# Altium footprint library 2440PCBV5_20140403.PcbLib: 166 footprints (part 10 of 11)
Each footprint in its own frame and in the unit in brackets; x right, y up, seen from the top. Pads: shape width x height; smd on the part's side, far side on the other; paste and mask are expansions set on the pad; w line width, h text height; cw(c..) or ccw(c..) is an arc to the next point about the centre after c.
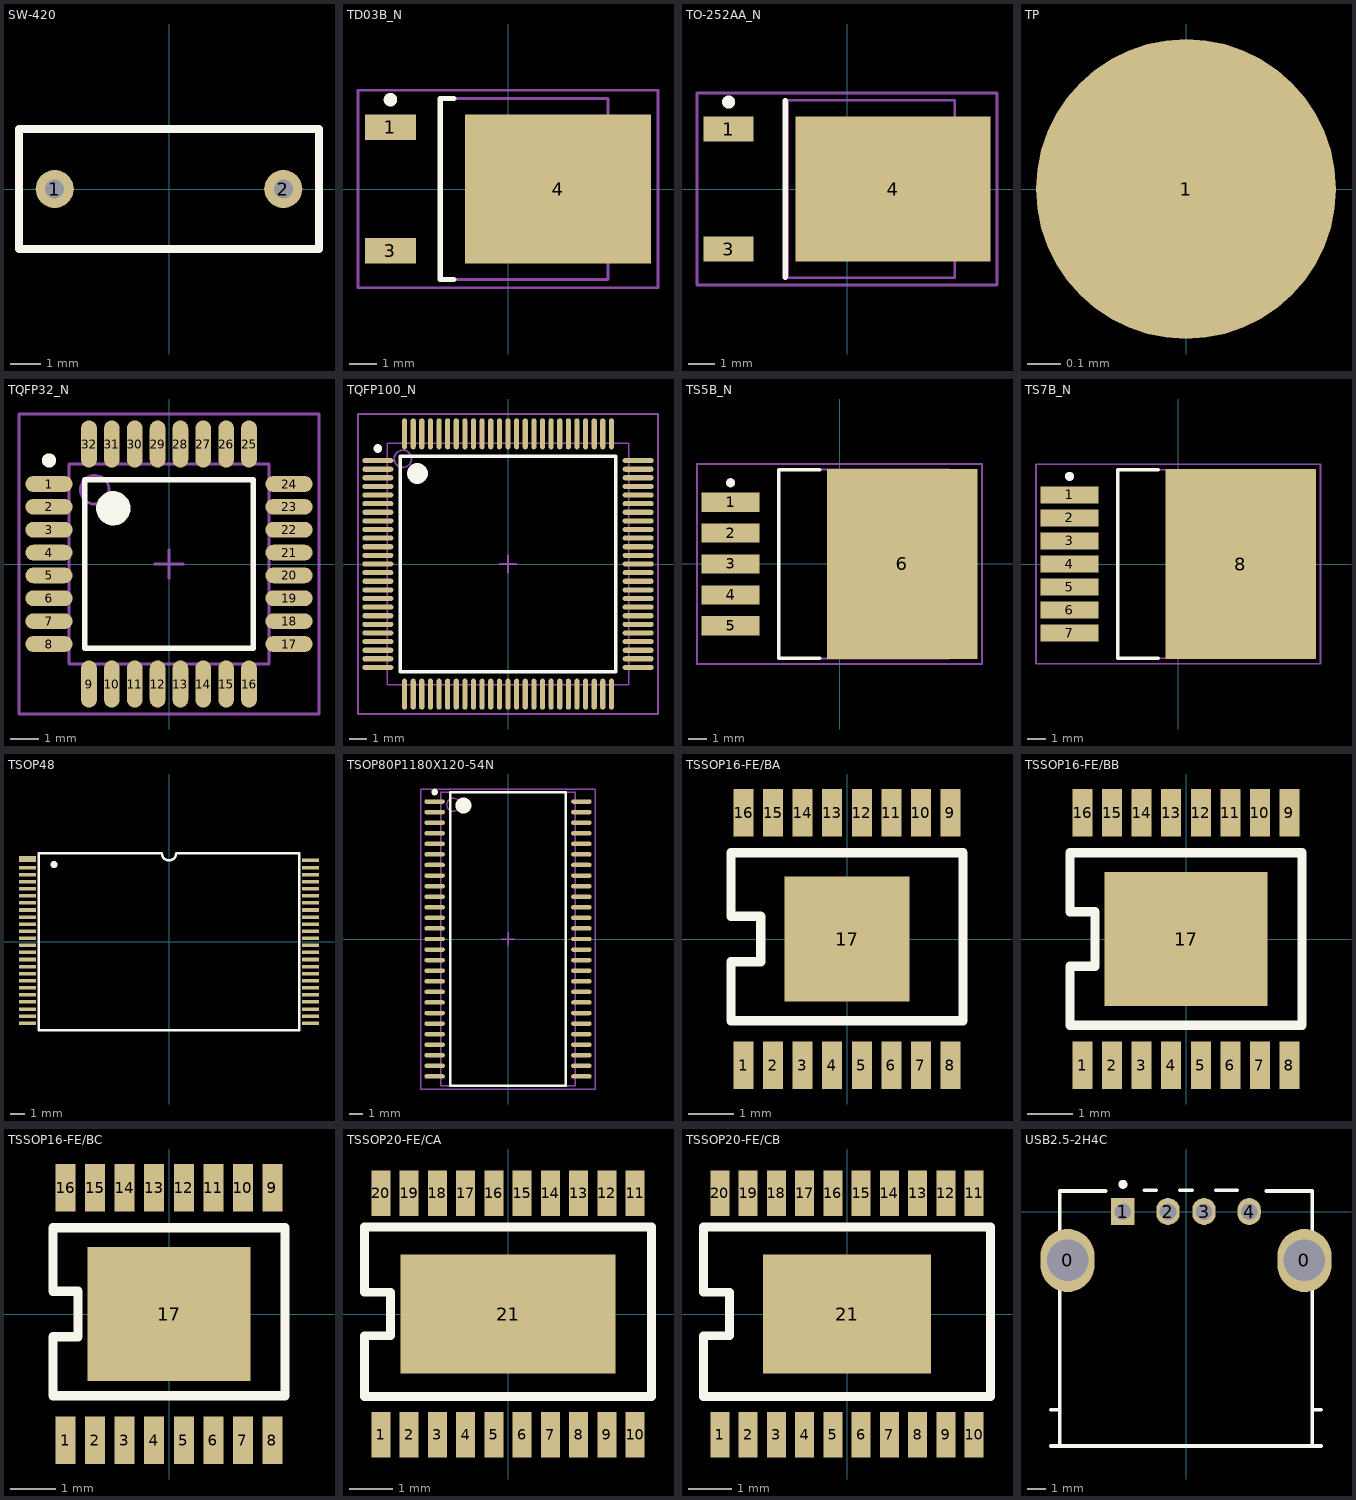
[diagram p9: the footprints below, top view; thin cyan lines are the x and y axes]

## SW-420 [mm]
pads (2):
  round 1.27 hole 0.635: 1(-3.81,0) 2(3.81,0)
Top Overlay:
  lines w0.254: -5,-2 5,-2 5,2 -5,2 -5,-2

## TD03B_N [mm]
height 2.38
pads (3):
  rect 1.9x0.95 smd: 1(-4.35,2.28) 3(-4.35,-2.28)
  rect 6.9x5.5 smd: 4(1.85,0)
Top Overlay:
  circle w0.25: c-4.35,3.305 r0.125
  lines w0.2: -2,-3.35 -2.5,-3.35 -2.5,3.35 -2,3.35
Mechanical 13:
  lines w0.1: -2.5,-3.35 -2.5,3.35 3.7,3.35 3.7,-3.35 -2.5,-3.35
Mechanical 15:
  lines w0.1: -0.5,0 0.5,0 ; 0,-0.5 0,0.5 ; -5.55,-3.65 -5.55,3.65 5.55,3.65 5.55,-3.65 -5.55,-3.65
3D body: height 2.38, standoff 0, extent -2.499,-3.349 3.699,3.349

## TO-252AA_N [mm] "D-PAK, 4-Leads, Body 6.1x6.5mm, Pitch 2.28mm, Lead Span 9.9mm, IPC Medium Density"
height 2.38
pads (3):
  rect 1.9x0.95 smd: 1(-4.5,2.28) 3(-4.5,-2.28)
  rect 7.4x5.5 smd: 4(1.75,0)
Top Overlay:
  circle w0.25: c-4.5,3.305 r0.125
  lines w0.2: -2.35,-3.35 -2.35,3.35
Mechanical 13:
  lines w0.1: -2.25,-3.375 -2.25,3.375 4.1,3.375 4.1,-3.375 -2.25,-3.375
Mechanical 15:
  lines w0.1: -0.5,0 0.5,0 ; 0,-0.5 0,0.5 ; -5.7,-3.65 -5.7,3.65 5.7,3.65 5.7,-3.65 -5.7,-3.65
3D body: height 2.38, standoff 0, extent -2.25,-3.375 4.1,3.375

## TP [mil] "Test Point 30mil-35mil"
pads (1):
  round 35 smd: 1(0,0)

## TQFP32_N [mm] "Thin QFP, 32-Leads, Body 7x7mm, Pitch 0.8mm, IPC Medium Density"
height 1.2
pads (32):
  oval 1.65x0.55 smd: 1(-4.2,2.8) 2(-4.2,2) 3(-4.2,1.2) 4(-4.2,0.4) 5(-4.2,-0.4) 6(-4.2,-1.2) 7(-4.2,-2) 8(-4.2,-2.8) 17(4.2,-2.8) 18(4.2,-2) 19(4.2,-1.2) 20(4.2,-0.4) 21(4.2,0.4) 22(4.2,1.2) 23(4.2,2) 24(4.2,2.8)
  oval 0.55x1.65 smd: 9(-2.8,-4.2) 10(-2,-4.2) 11(-1.2,-4.2) 12(-0.4,-4.2) 13(0.4,-4.2) 14(1.2,-4.2) 15(2,-4.2) 16(2.8,-4.2) 25(2.8,4.2) 26(2,4.2) 27(1.2,4.2) 28(0.4,4.2) 29(-0.4,4.2) 30(-1.2,4.2) 31(-2,4.2) 32(-2.8,4.2)
Top Overlay:
  circle w0.25: c-4.2,3.625 r0.125
  circle w0.6: c-1.95,1.95 r0.3
  lines w0.2: -2.95,-2.95 -2.95,2.95 2.95,2.95 2.95,-2.95 -2.95,-2.95
Mechanical 13:
  circle w0.1: c-2.6,2.6 r0.5
  lines w0.1: -3.5,-3.5 -3.5,3.5 3.5,3.5 3.5,-3.5 -3.5,-3.5
Mechanical 15:
  lines w0.1: -0.5,0 0.5,0 ; 0,-0.5 0,0.5 ; -5.25,-5.25 -5.25,5.25 5.25,5.25 5.25,-5.25 -5.25,-5.25
3D body: height 1.2, standoff 0, extent -3.5,-3.5 3.5,3.5

## TQFP100_N [mm] "100-Pin Plastic Thin Quad Flat Pack (TQFP100), IPC Medium Density"
height 1.2
pads (100):
  oval 1.8x0.3 smd: 1(-7.55,6) 2(-7.55,5.5) 3(-7.55,5) 4(-7.55,4.5) 5(-7.55,4) 6(-7.55,3.5) 7(-7.55,3) 8(-7.55,2.5) 9(-7.55,2) 10(-7.55,1.5) 11(-7.55,1) 12(-7.55,0.5) 13(-7.55,0) 14(-7.55,-0.5) 15(-7.55,-1) 16(-7.55,-1.5) 17(-7.55,-2) 18(-7.55,-2.5) 19(-7.55,-3) 20(-7.55,-3.5) 21(-7.55,-4) 22(-7.55,-4.5) 23(-7.55,-5) 24(-7.55,-5.5) 25(-7.55,-6) 51(7.55,-6) 52(7.55,-5.5) 53(7.55,-5) 54(7.55,-4.5) 55(7.55,-4) 56(7.55,-3.5) 57(7.55,-3) 58(7.55,-2.5) 59(7.55,-2) 60(7.55,-1.5) 61(7.55,-1) 62(7.55,-0.5) 63(7.55,0) 64(7.55,0.5) 65(7.55,1) 66(7.55,1.5) 67(7.55,2) 68(7.55,2.5) 69(7.55,3) 70(7.55,3.5) 71(7.55,4) 72(7.55,4.5) 73(7.55,5) 74(7.55,5.5) 75(7.55,6)
  oval 0.3x1.8 smd: 26(-6,-7.55) 27(-5.5,-7.55) 28(-5,-7.55) 29(-4.5,-7.55) 30(-4,-7.55) 31(-3.5,-7.55) 32(-3,-7.55) 33(-2.5,-7.55) 34(-2,-7.55) 35(-1.5,-7.55) 36(-1,-7.55) 37(-0.5,-7.55) 38(0,-7.55) 39(0.5,-7.55) 40(1,-7.55) 41(1.5,-7.55) 42(2,-7.55) 43(2.5,-7.55) 44(3,-7.55) 45(3.5,-7.55) 46(4,-7.55) 47(4.5,-7.55) 48(5,-7.55) 49(5.5,-7.55) 50(6,-7.55) 76(6,7.55) 77(5.5,7.55) 78(5,7.55) 79(4.5,7.55) 80(4,7.55) 81(3.5,7.55) 82(3,7.55) 83(2.5,7.55) 84(2,7.55) 85(1.5,7.55) 86(1,7.55) 87(0.5,7.55) 88(0,7.55) 89(-0.5,7.55) 90(-1,7.55) 91(-1.5,7.55) 92(-2,7.55) 93(-2.5,7.55) 94(-3,7.55) 95(-3.5,7.55) 96(-4,7.55) 97(-4.5,7.55) 98(-5,7.55) 99(-5.5,7.55) 100(-6,7.55)
Top Overlay:
  circle w0.6: c-5.25,5.25 r0.3
  circle w0.25: c-7.55,6.7 r0.125
  lines w0.2: -6.25,-6.25 6.25,-6.25 6.25,6.25 -6.25,6.25 -6.25,-6.25
Mechanical 13:
  circle w0.1: c-6.1,6.1 r0.5
  lines w0.1: -7,-7 7,-7 7,7 -7,7 -7,-7
Mechanical 15:
  lines w0.1: -0.5,0 0.5,0 ; 0,-0.5 0,0.5 ; -8.7,-8.7 8.7,-8.7 8.7,8.7 -8.7,8.7 -8.7,-8.7
3D body: height 1.2, standoff 0, extent -7,-7 7,7

## TS5B_N [mm]
height 4.65
pads (6):
  rect 3.2x1.05 smd: 1(-6,3.4) 2(-6,1.7) 3(-6,0) 4(-6,-1.7) 5(-6,-3.4)
  rect 8.3x10.45 smd: 6(3.45,0)
Top Overlay:
  circle w0.25: c-6,4.475 r0.125
  lines w0.2: -1.1,-5.2 -3.35,-5.2 -3.35,5.2 -1.1,5.2
Mechanical 13:
  lines w0.1: -3.35,-5.2 6.05,-5.2 6.05,5.2 -3.35,5.2 -3.35,-5.2
Mechanical 15:
  lines w0.1: -0.5,0 0.5,0 ; 0,-0.5 0,0.5 ; -7.85,-5.5 7.85,-5.5 7.85,5.5 -7.85,5.5 -7.85,-5.5
3D body: height 4.65, standoff 0, extent -3.35,-5.2 6.05,5.2

## TS7B_N [mm] "D2-PAK, 8-Leads, Body 8.6x10.2mm, Pitch 1.27mm, Lead Span 14.1mm, IPC Medium Density"
height 4.64
pads (8):
  rect 3.2x0.95 smd: 1(-6,3.81) 2(-6,2.54) 3(-6,1.27) 4(-6,0) 5(-6,-1.27) 6(-6,-2.54) 7(-6,-3.81)
  rect 8.3x10.5 smd: 8(3.45,0)
Top Overlay:
  circle w0.25: c-6,4.835 r0.125
  lines w0.2: -1.1,-5.2 -3.35,-5.2 -3.35,5.2 -1.1,5.2
Mechanical 13:
  lines w0.1: -3.35,-5.2 6.05,-5.2 6.05,5.2 -3.35,5.2 -3.35,-5.2
Mechanical 15:
  lines w0.1: -0.5,0 0.5,0 ; 0,-0.5 0,0.5 ; -7.85,-5.5 7.85,-5.5 7.85,5.5 -7.85,5.5 -7.85,-5.5
3D body: height 4.64, standoff 0, extent -3.35,-5.2 6.05,5.2

## TSOP48 [mm]
pads (48):
  rect 1.2x0.45 smd: 1(-10,5.85)
  rect 1.2x0.25 smd: 2(-10,5.25) 3(-10,4.75) 4(-10,4.25) 5(-10,3.75) 6(-10,3.25) 7(-10,2.75) 8(-10,2.25) 9(-10,1.75) 10(-10,1.25) 11(-10,0.75) 12(-10,0.25) 13(-10,-0.25) 14(-10,-0.75) 15(-10,-1.25) 16(-10,-1.75) 17(-10,-2.25) 18(-10,-2.75) 19(-10,-3.25) 20(-10,-3.75) 21(-10,-4.25) 22(-10,-4.75) 23(-10,-5.25) 24(-10,-5.75) 25(10,-5.75) 26(10,-5.25) 27(10,-4.75) 28(10,-4.25) 29(10,-3.75) 30(10,-3.25) 31(10,-2.75) 32(10,-2.25) 33(10,-1.75) 34(10,-1.25) 35(10,-0.75) 36(10,-0.25) 37(10,0.25) 38(10,0.75) 39(10,1.25) 40(10,1.75) 41(10,2.25) 42(10,2.75) 43(10,3.25) 44(10,3.75) 45(10,4.25) 46(10,4.75) 47(10,5.25) 48(10,5.75)
Top Overlay:
  circle w0.25: c-8.126,5.461 r0.125
  lines w0.178: -9.2,-6.25 9.2,-6.25 9.2,6.25 0.5,6.25 cw(c0,6.25) -0.5,6.25 -9.2,6.25 -9.2,-6.25
3D body: height 1.2, standoff -0.06, extent -10.077,-6.012 10.023,6.088

## TSOP80P1180X120-54N [mm]
height 1.2
pads (54):
  oval 1.55x0.34 smd: 1(-5.55,10.4) 2(-5.55,9.6) 3(-5.55,8.8) 4(-5.55,8) 5(-5.55,7.2) 6(-5.55,6.4) 7(-5.55,5.6) 8(-5.55,4.8) 9(-5.55,4) 10(-5.55,3.2) 11(-5.55,2.4) 12(-5.55,1.6) 13(-5.55,0.8) 14(-5.55,0) 15(-5.55,-0.8) 16(-5.55,-1.6) 17(-5.55,-2.4) 18(-5.55,-3.2) 19(-5.55,-4) 20(-5.55,-4.8) 21(-5.55,-5.6) 22(-5.55,-6.4) 23(-5.55,-7.2) 24(-5.55,-8) 25(-5.55,-8.8) 26(-5.55,-9.6) 27(-5.55,-10.4) 28(5.55,-10.4) 29(5.55,-9.6) 30(5.55,-8.8) 31(5.55,-8) 32(5.55,-7.2) 33(5.55,-6.4) 34(5.55,-5.6) 35(5.55,-4.8) 36(5.55,-4) 37(5.55,-3.2) 38(5.55,-2.4) 39(5.55,-1.6) 40(5.55,-0.8) 41(5.55,0) 42(5.55,0.8) 43(5.55,1.6) 44(5.55,2.4) 45(5.55,3.2) 46(5.55,4) 47(5.55,4.8) 48(5.55,5.6) 49(5.55,6.4) 50(5.55,7.2) 51(5.55,8) 52(5.55,8.8) 53(5.55,9.6) 54(5.55,10.4)
Top Overlay:
  circle w0.25: c-5.55,11.12 r0.125
  circle w0.6: c-3.375,10.1 r0.3
  lines w0.2: -4.375,-11.1 -4.375,11.1 4.375,11.1 4.375,-11.1 -4.375,-11.1
Mechanical 13:
  circle w0.1: c-4.13,10.16 r0.5
  lines w0.1: -5.08,-11.11 -5.08,11.11 5.08,11.11 5.08,-11.11 -5.08,-11.11
Mechanical 15:
  lines w0.1: -0.5,0 0.5,0 ; 0,-0.5 0,0.5 ; -6.6,-11.35 -6.6,11.35 6.6,11.35 6.6,-11.35 -6.6,-11.35
3D body: height 1.25, standoff 0, extent -5.856,-11.107 5.904,11.113

## TSSOP16-FE/BA [mm]
pads (17):
  rect 0.44x1.05 smd: 1(-2.275,-2.775) 2(-1.625,-2.775) 3(-0.975,-2.775) 4(-0.325,-2.775) 5(0.325,-2.775) 6(0.975,-2.775) 7(1.625,-2.775) 8(2.275,-2.775) 9(2.275,2.775) 10(1.625,2.775) 11(0.975,2.775) 12(0.325,2.775) 13(-0.325,2.775) 14(-0.975,2.775) 15(-1.625,2.775) 16(-2.275,2.775)
  rect 2.74x2.74 smd: 17(0,0)
Top Overlay:
  lines w0.203: -2.55,-1.8 2.55,-1.8 2.55,1.9 -2.55,1.9 -2.55,0.5 -1.9,0.5 -1.9,-0.5 -2.55,-0.5 -2.55,-1.8

## TSSOP16-FE/BB [mm]
pads (17):
  rect 0.44x1.05 smd: 1(-2.275,-2.775) 2(-1.625,-2.775) 3(-0.975,-2.775) 4(-0.325,-2.775) 5(0.325,-2.775) 6(0.975,-2.775) 7(1.625,-2.775) 8(2.275,-2.775) 9(2.275,2.775) 10(1.625,2.775) 11(0.975,2.775) 12(0.325,2.775) 13(-0.325,2.775) 14(-0.975,2.775) 15(-1.625,2.775) 16(-2.275,2.775)
  rect 3.58x2.95 smd: 17(0,0)
Top Overlay:
  lines w0.203: -2.55,-1.9 -2.55,-0.6 -2,-0.6 -2,0.6 -2.55,0.6 -2.55,1.9 2.55,1.9 2.55,-1.9 -2.55,-1.9

## TSSOP16-FE/BC [mm]
pads (17):
  rect 0.44x1.05 smd: 1(-2.275,-2.775) 2(-1.625,-2.775) 3(-0.975,-2.775) 4(-0.325,-2.775) 5(0.325,-2.775) 6(0.975,-2.775) 7(1.625,-2.775) 8(2.275,-2.775) 9(2.275,2.775) 10(1.625,2.775) 11(0.975,2.775) 12(0.325,2.775) 13(-0.325,2.775) 14(-0.975,2.775) 15(-1.625,2.775) 16(-2.275,2.775)
  rect 3.58x2.94 smd: 17(0,0)
Top Overlay:
  lines w0.203: -2.55,-1.8 -2.55,-0.5 -2,-0.5 -2,0.5 -2.55,0.5 -2.55,1.9 2.55,1.9 2.55,-1.8 -2.55,-1.8

## TSSOP20-FE/CA [mm]
pads (21):
  rect 0.44x1.05 smd: 1(-2.925,-2.775) 2(-2.275,-2.775) 3(-1.625,-2.775) 4(-0.975,-2.775) 5(-0.325,-2.775) 6(0.325,-2.775) 7(0.975,-2.775) 8(1.625,-2.775) 9(2.275,-2.775) 10(2.925,-2.775) 11(2.925,2.775) 12(2.275,2.775) 13(1.625,2.775) 14(0.975,2.775) 15(0.325,2.775) 16(-0.325,2.775) 17(-0.975,2.775) 18(-1.625,2.775) 19(-2.275,2.775) 20(-2.925,2.775)
  rect 4.95x2.74 smd: 21(0,0)
Top Overlay:
  lines w0.203: -3.3,-1.9 -3.3,-0.5 -2.7,-0.5 -2.7,0.5 -3.3,0.5 -3.3,2 3.3,2 3.3,-1.9 -3.3,-1.9

## TSSOP20-FE/CB [mm]
pads (21):
  rect 0.44x1.05 smd: 1(-2.925,-2.775) 2(-2.275,-2.775) 3(-1.625,-2.775) 4(-0.975,-2.775) 5(-0.325,-2.775) 6(0.325,-2.775) 7(0.975,-2.775) 8(1.625,-2.775) 9(2.275,-2.775) 10(2.925,-2.775) 11(2.925,2.775) 12(2.275,2.775) 13(1.625,2.775) 14(0.975,2.775) 15(0.325,2.775) 16(-0.325,2.775) 17(-0.975,2.775) 18(-1.625,2.775) 19(-2.275,2.775) 20(-2.925,2.775)
  rect 3.86x2.74 smd: 21(0,0)
Top Overlay:
  lines w0.203: -3.3,-1.9 3.3,-1.9 3.3,2 -3.3,2 -3.3,0.5 -2.7,0.5 -2.7,-0.5 -3.3,-0.5 -3.3,-1.9

## USB2.5-2H4C [mm] "Connector; USB1.1, Type A, Thru-Hole; 4 Position; Right Angle"
height 7.01
pads (6):
  oval 3x3.5 hole 2.3 mask+0.07: 0(-6.57,-2.71) 0(6.57,-2.71)
  rect 1.3x1.5 hole 0.92 mask+0.07: 1(-3.5,0)
  oval 1.3x1.5 hole 0.92 mask+0.07: 2(-1,0) 3(1,0) 4(3.5,0)
Top Overlay:
  circle w0.25: c-3.5,1.513 r0.125
  lines w0.2: -6.985,1.143 -4.445,1.143 ; -2.3,1.173 -1.66,1.173 ; -0.34,1.173 0.34,1.173 ; 1.66,1.173 2.84,1.173 ; 4.445,1.143 6.985,1.143
  lines w0.203: -7.5,-13 -7,-13 ; -7.5,-11 -7,-11 ; -7,1.15 -7,0 -7,-13 ; 7,-11 7.5,-11 ; 7,1.15 7,0 7,-13 ; 7.5,-13 7,-13 ; -7,-13 7,-13
3D body: height 7.65, standoff -3.61, extent -8.116,-13 8.116,1